# Altium footprint library VREF.PcbLib: 1 footprints
Each footprint in its own frame and in the unit in brackets; x right, y up, seen from the top. Pads: shape width x height; smd on the part's side, far side on the other; paste and mask are expansions set on the pad; w line width, h text height; cw(c..) or ccw(c..) is an arc to the next point about the centre after c.
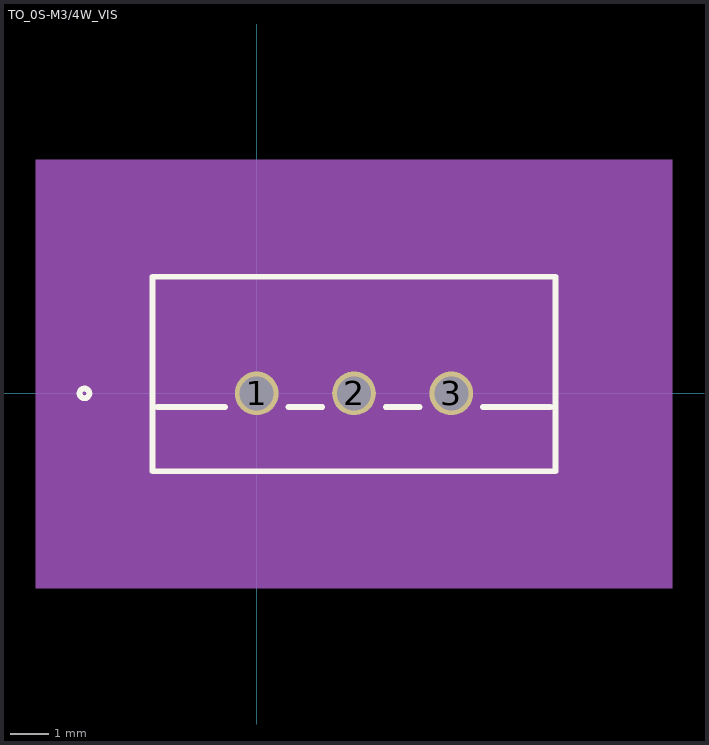
[diagram p0: the footprint, top view; thin cyan lines are the x and y axes]

## TO_0S-M3/4W_VIS [mil]
pads (3):
  round 45 hole 35 mask+0: 1(0,0) 2(100,0) 3(200,0)
Top Overlay:
  circle w6: c-177,0 r5
  lines w6: -102,-14.12 -32.68,-14.12 ; 32.68,-14.12 67.32,-14.12 ; 132.68,-14.12 167.32,-14.12 ; 232.68,-14.12 302,-14.12 ; -107,-80.12 307,-80.12 307,119.88 -107,119.88 -107,-80.12
Mechanical 5:
  region: -227,239.88 427,239.88 427,-200.12 -227,-200.12
Mechanical 7:
  lines w1: 0,-135.12 0,-32.5 ; 110,19.88 362,19.88 ; 200,-135.12 200,-32.5 ; 232.5,0 362,0 ; 0,-125.12 200,-125.12 ; 0,-125.12 10,-120.12 10,-130.12 0,-125.12 ; 200,-125.12 190,-120.12 190,-130.12 200,-125.12 ; 352,0 352,19.88 ; 352,0 347,10 357,10 352,0 ; 352,19.88 347,9.88 357,9.88 352,19.88
  text "Default Padstyle: EX45Y45D35P" at -262.5,-285.12 h50
  text "Pin 1 Padstyle: EX45Y45D0T" at -225,-345.12 h50
  text "Alt 1 Padstyle: OX60Y90D30P" at -237.5,-405.12 h50
  text "Alt 2 Padstyle: OX90Y60D30P" at -237.5,-465.12 h50
Mechanical 13:
  circle w0: c-92,0 r5
  lines w1: -102,-19.12 302,-19.12 ; -102,-75.12 302,-75.12 302,114.88 -102,114.88 -102,-75.12
  text "TAB" at 81.25,35.38 h25
Mechanical 15:
  region: 312,124.88 -112,124.88 -112,-85.12 312,-85.12
  lines w6: -112,-85.12 -112,124.88 312,124.88 312,-85.12 -112,-85.12
3D body "TO_0S-M34W_VIS.step": height 635, standoff -200, extent -102.01,-60 302.01,130
3D body: height 10, standoff 0, extent 0,0 10,10